# Altium footprint library Connector_PinSocket_1.27mm.PcbLib: 246 footprints (part 15 of 16)
Each footprint in its own frame and in the unit in brackets; x right, y up, seen from the top. Pads: shape width x height; smd on the part's side, far side on the other; paste and mask are expansions set on the pad; w line width, h text height; cw(c..) or ccw(c..) is an arc to the next point about the centre after c.
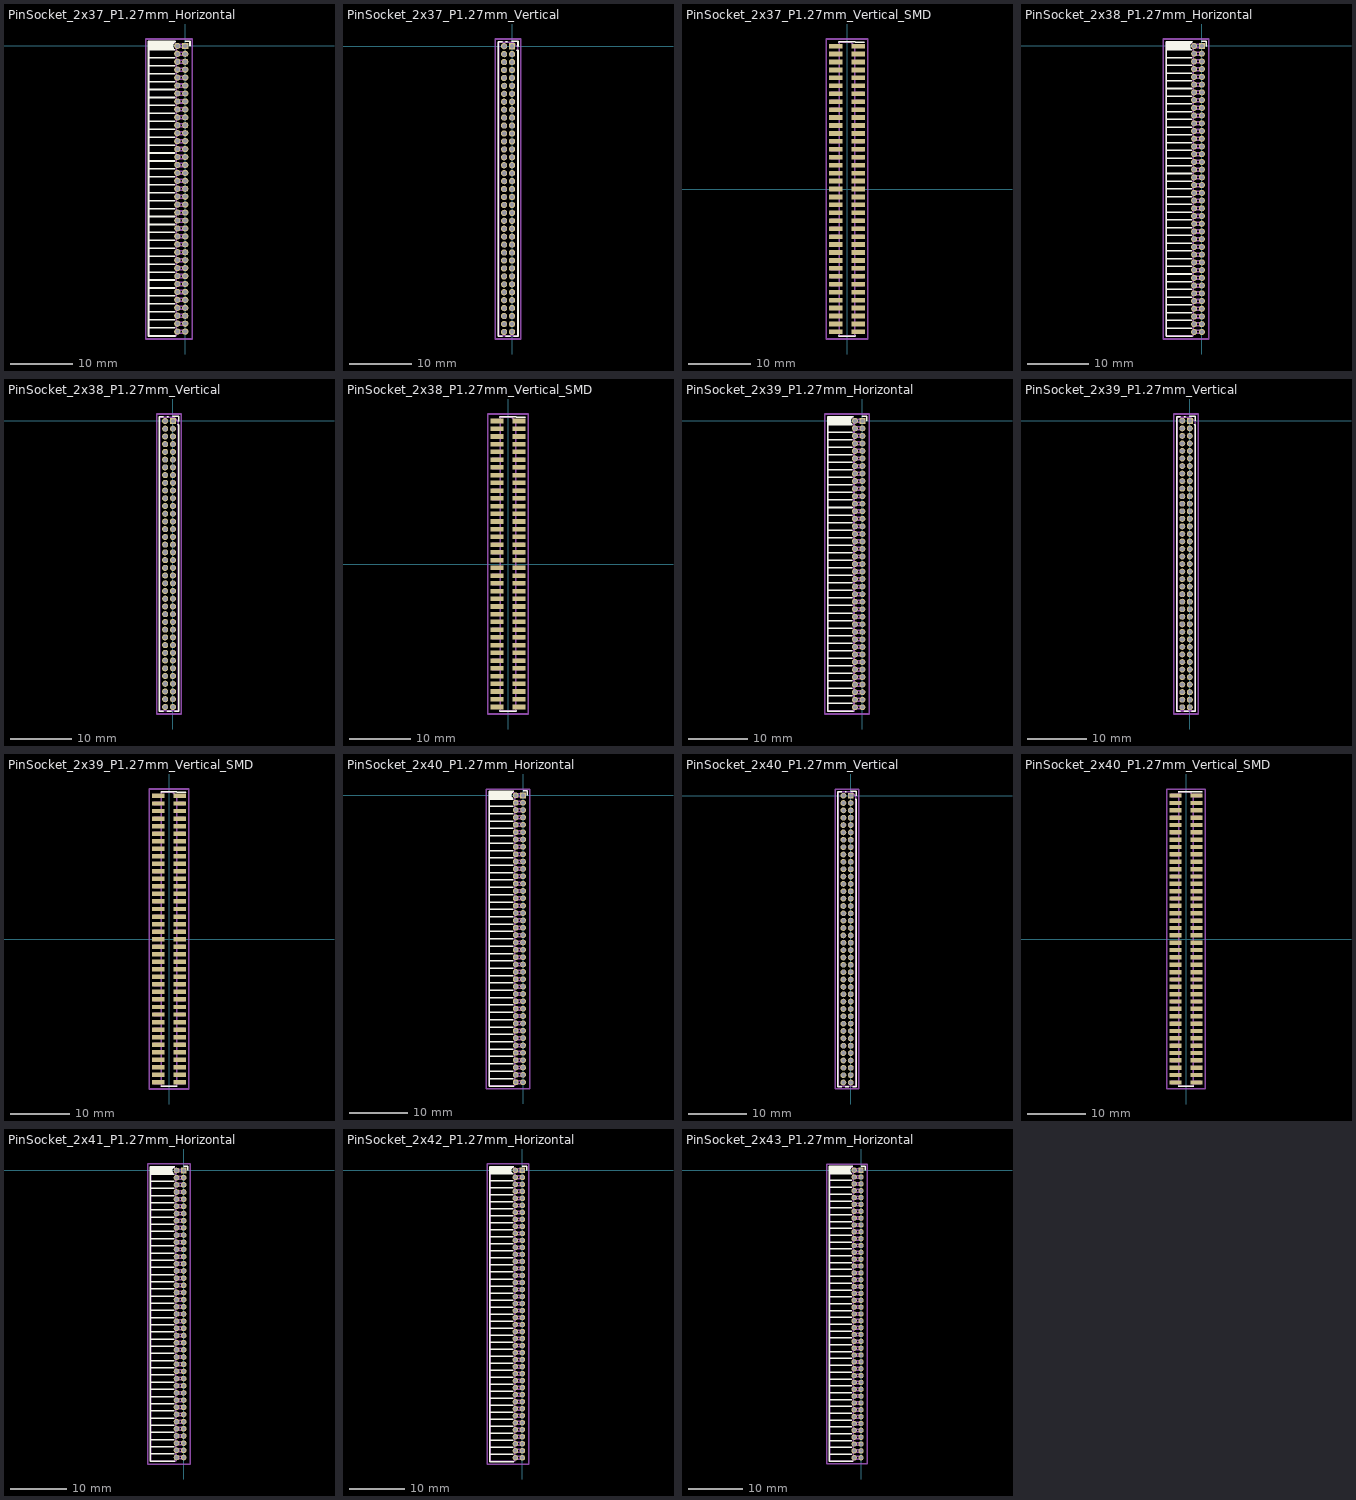
[diagram p14: the footprints below, top view; thin cyan lines are the x and y axes]

## PinSocket_2x37_P1.27mm_Horizontal [mm]
pads (74):
  rect 1x1 hole 0.65: 1(0,0)
  round 1 hole 0.65: 2(-1.27,0) 3(0,-1.27) 4(-1.27,-1.27) 5(0,-2.54) 6(-1.27,-2.54) 7(0,-3.81) 8(-1.27,-3.81) 9(0,-5.08) 10(-1.27,-5.08) 11(0,-6.35) 12(-1.27,-6.35) 13(0,-7.62) 14(-1.27,-7.62) 15(0,-8.89) 16(-1.27,-8.89) 17(0,-10.16) 18(-1.27,-10.16) 19(0,-11.43) 20(-1.27,-11.43) 21(0,-12.7) 22(-1.27,-12.7) 23(0,-13.97) 24(-1.27,-13.97) 25(0,-15.24) 26(-1.27,-15.24) 27(0,-16.51) 28(-1.27,-16.51) 29(0,-17.78) 30(-1.27,-17.78) 31(0,-19.05) 32(-1.27,-19.05) 33(0,-20.32) 34(-1.27,-20.32) 35(0,-21.59) 36(-1.27,-21.59) 37(0,-22.86) 38(-1.27,-22.86) 39(0,-24.13) 40(-1.27,-24.13) 41(0,-25.4) 42(-1.27,-25.4) 43(0,-26.67) 44(-1.27,-26.67) 45(0,-27.94) 46(-1.27,-27.94) 47(0,-29.21) 48(-1.27,-29.21) 49(0,-30.48) 50(-1.27,-30.48) 51(0,-31.75) 52(-1.27,-31.75) 53(0,-33.02) 54(-1.27,-33.02) 55(0,-34.29) 56(-1.27,-34.29) 57(0,-35.56) 58(-1.27,-35.56) 59(0,-36.83) 60(-1.27,-36.83) 61(0,-38.1) 62(-1.27,-38.1) 63(0,-39.37) 64(-1.27,-39.37) 65(0,-40.64) 66(-1.27,-40.64) 67(0,-41.91) 68(-1.27,-41.91) 69(0,-43.18) 70(-1.27,-43.18) 71(0,-44.45) 72(-1.27,-44.45) 73(0,-45.72) 74(-1.27,-45.72)
F.SilkS:
  lines w0.254: -5.88,-45.085 -1.688,-45.085 ; -5.88,-43.815 -1.688,-43.815 ; -5.88,-42.545 -1.688,-42.545 ; -5.88,-41.275 -1.688,-41.275 ; -5.88,-40.005 -1.688,-40.005 ; -5.88,-38.735 -1.688,-38.735 ; -5.88,-37.465 -1.688,-37.465 ; -5.88,-36.195 -1.688,-36.195 ; -5.88,-34.925 -1.688,-34.925 ; -5.88,-33.655 -1.688,-33.655 ; -5.88,-32.385 -1.688,-32.385 ; -5.88,-31.115 -1.688,-31.115 ; -5.88,-29.845 -1.688,-29.845 ; -5.88,-28.575 -1.688,-28.575 ; -5.88,-27.305 -1.688,-27.305 ; -5.88,-26.035 -1.688,-26.035 ; -5.88,-24.765 -1.688,-24.765 ; -5.88,-23.495 -1.688,-23.495 ; -5.88,-22.225 -1.688,-22.225 ; -5.88,-20.955 -1.688,-20.955 ; -5.88,-19.685 -1.688,-19.685 ; -5.88,-18.415 -1.688,-18.415 ; -5.88,-17.145 -1.688,-17.145 ; -5.88,-15.875 -1.688,-15.875 ; -5.88,-14.605 -1.688,-14.605 ; -5.88,-13.335 -1.688,-13.335 ; -5.88,-12.065 -1.688,-12.065 ; -5.88,-10.795 -1.688,-10.795 ; -5.88,-9.525 -1.688,-9.525 ; -5.88,-8.255 -1.688,-8.255 ; -5.88,-6.985 -1.688,-6.985 ; -5.88,-5.715 -1.688,-5.715 ; -5.88,-4.445 -1.688,-4.445 ; -5.88,-3.175 -1.688,-3.175 ; -5.88,-1.905 -1.688,-1.905 ; -5.88,-0.635 -1.688,-0.635 ; -5.88,-0.525 -1.82,-0.525 ; -5.88,-0.415 -1.907,-0.415 ; -5.88,-0.305 -1.966,-0.305 ; -5.88,-0.195 -2.005,-0.195 ; -5.88,-0.085 -2.025,-0.085 ; -5.88,0.025 -2.03,0.025 ; -5.88,0.135 -2.018,0.135 ; -5.88,0.245 -1.989,0.245 ; -5.88,0.355 -1.942,0.355 ; -5.88,0.465 -1.871,0.465 ; -5.88,0.575 -1.767,0.575 ; -1.578,-46.415 -5.88,-46.415 -5.88,0.695 -1.578,0.695 ; 0,0.76 0.76,0.76 0.76,0
Top Assembly:
  lines w0.254: -1.42,-45.97 0,-45.97 0,-45.47 -1.42,-45.47 ; -1.42,-44.7 0,-44.7 0,-44.2 -1.42,-44.2 ; -1.42,-43.43 0,-43.43 0,-42.93 -1.42,-42.93 ; -1.42,-42.16 0,-42.16 0,-41.66 -1.42,-41.66 ; -1.42,-40.89 0,-40.89 0,-40.39 -1.42,-40.39 ; -1.42,-39.62 0,-39.62 0,-39.12 -1.42,-39.12 ; -1.42,-38.35 0,-38.35 0,-37.85 -1.42,-37.85 ; -1.42,-37.08 0,-37.08 0,-36.58 -1.42,-36.58 ; -1.42,-35.81 0,-35.81 0,-35.31 -1.42,-35.31 ; -1.42,-34.54 0,-34.54 0,-34.04 -1.42,-34.04 ; -1.42,-33.27 0,-33.27 0,-32.77 -1.42,-32.77 ; -1.42,-32 0,-32 0,-31.5 -1.42,-31.5 ; -1.42,-30.73 0,-30.73 0,-30.23 -1.42,-30.23 ; -1.42,-29.46 0,-29.46 0,-28.96 -1.42,-28.96 ; -1.42,-28.19 0,-28.19 0,-27.69 -1.42,-27.69 ; -1.42,-26.92 0,-26.92 0,-26.42 -1.42,-26.42 ; -1.42,-25.65 0,-25.65 0,-25.15 -1.42,-25.15 ; -1.42,-24.38 0,-24.38 0,-23.88 -1.42,-23.88 ; -1.42,-23.11 0,-23.11 0,-22.61 -1.42,-22.61 ; -1.42,-21.84 0,-21.84 0,-21.34 -1.42,-21.34 ; -1.42,-20.57 0,-20.57 0,-20.07 -1.42,-20.07 ; -1.42,-19.3 0,-19.3 0,-18.8 -1.42,-18.8 ; -1.42,-18.03 0,-18.03 0,-17.53 -1.42,-17.53 ; -1.42,-16.76 0,-16.76 0,-16.26 -1.42,-16.26 ; -1.42,-15.49 0,-15.49 0,-14.99 -1.42,-14.99 ; -1.42,-14.22 0,-14.22 0,-13.72 -1.42,-13.72 ; -1.42,-12.95 0,-12.95 0,-12.45 -1.42,-12.45 ; -1.42,-11.68 0,-11.68 0,-11.18 -1.42,-11.18 ; -1.42,-10.41 0,-10.41 0,-9.91 -1.42,-9.91 ; -1.42,-9.14 0,-9.14 0,-8.64 -1.42,-8.64 ; -1.42,-7.87 0,-7.87 0,-7.37 -1.42,-7.37 ; -1.42,-6.6 0,-6.6 0,-6.1 -1.42,-6.1 ; -1.42,-5.33 0,-5.33 0,-4.83 -1.42,-4.83 ; -1.42,-4.06 0,-4.06 0,-3.56 -1.42,-3.56 ; -1.42,-2.79 0,-2.79 0,-2.29 -1.42,-2.29 ; -1.42,-1.52 0,-1.52 0,-1.02 -1.42,-1.02 ; -1.42,-0.25 0,-0.25 0,0.25 -1.42,0.25 ; -1.42,0.25 -1.42,-46.355 -5.82,-46.355 -5.82,0.635 -1.805,0.635 -1.42,0.25
  text "'.Designator'" at -2.78,-26.907 h1
Top Courtyard:
  lines w0.254: -6.35,-46.9 1.15,-46.9 1.15,1.1 -6.35,1.1 -6.35,-46.9
Top Designator:
  text ".Designator" at -10.218,-23.408 h1.52

## PinSocket_2x37_P1.27mm_Vertical [mm]
pads (74):
  rect 1x1 hole 0.7: 1(0,0)
  round 1 hole 0.7: 2(-1.27,0) 3(0,-1.27) 4(-1.27,-1.27) 5(0,-2.54) 6(-1.27,-2.54) 7(0,-3.81) 8(-1.27,-3.81) 9(0,-5.08) 10(-1.27,-5.08) 11(0,-6.35) 12(-1.27,-6.35) 13(0,-7.62) 14(-1.27,-7.62) 15(0,-8.89) 16(-1.27,-8.89) 17(0,-10.16) 18(-1.27,-10.16) 19(0,-11.43) 20(-1.27,-11.43) 21(0,-12.7) 22(-1.27,-12.7) 23(0,-13.97) 24(-1.27,-13.97) 25(0,-15.24) 26(-1.27,-15.24) 27(0,-16.51) 28(-1.27,-16.51) 29(0,-17.78) 30(-1.27,-17.78) 31(0,-19.05) 32(-1.27,-19.05) 33(0,-20.32) 34(-1.27,-20.32) 35(0,-21.59) 36(-1.27,-21.59) 37(0,-22.86) 38(-1.27,-22.86) 39(0,-24.13) 40(-1.27,-24.13) 41(0,-25.4) 42(-1.27,-25.4) 43(0,-26.67) 44(-1.27,-26.67) 45(0,-27.94) 46(-1.27,-27.94) 47(0,-29.21) 48(-1.27,-29.21) 49(0,-30.48) 50(-1.27,-30.48) 51(0,-31.75) 52(-1.27,-31.75) 53(0,-33.02) 54(-1.27,-33.02) 55(0,-34.29) 56(-1.27,-34.29) 57(0,-35.56) 58(-1.27,-35.56) 59(0,-36.83) 60(-1.27,-36.83) 61(0,-38.1) 62(-1.27,-38.1) 63(0,-39.37) 64(-1.27,-39.37) 65(0,-40.64) 66(-1.27,-40.64) 67(0,-41.91) 68(-1.27,-41.91) 69(0,-43.18) 70(-1.27,-43.18) 71(0,-44.45) 72(-1.27,-44.45) 73(0,-45.72) 74(-1.27,-45.72)
F.SilkS:
  lines w0.254: -1.578,-46.415 -2.22,-46.415 -2.22,0.695 -1.578,0.695 ; -0.962,-46.415 -0.308,-46.415 ; -0.962,0.695 -0.76,0.695 ; 0,0.76 0.95,0.76 0.95,0 ; 0.308,-46.415 0.95,-46.415 0.95,-0.635 0.76,-0.635
Top Assembly:
  lines w0.254: -2.16,-46.355 0.89,-46.355 0.89,-0.128 0.128,0.635 -2.16,0.635 -2.16,-46.355
  text "'.Designator'" at 0.205,-26.907 h1
Top Courtyard:
  lines w0.254: -2.67,-46.85 1.38,-46.85 1.38,1.15 -2.67,1.15 -2.67,-46.85
Top Designator:
  text ".Designator" at -8.263,-23.358 h1.52

## PinSocket_2x37_P1.27mm_Vertical_SMD [mm]
pads (74):
  rect 2.1x0.75 smd: 1(1.8,22.86) 2(-1.8,22.86) 3(1.8,21.59) 4(-1.8,21.59) 5(1.8,20.32) 6(-1.8,20.32) 7(1.8,19.05) 8(-1.8,19.05) 9(1.8,17.78) 10(-1.8,17.78) 11(1.8,16.51) 12(-1.8,16.51) 13(1.8,15.24) 14(-1.8,15.24) 15(1.8,13.97) 16(-1.8,13.97) 17(1.8,12.7) 18(-1.8,12.7) 19(1.8,11.43) 20(-1.8,11.43) 21(1.8,10.16) 22(-1.8,10.16) 23(1.8,8.89) 24(-1.8,8.89) 25(1.8,7.62) 26(-1.8,7.62) 27(1.8,6.35) 28(-1.8,6.35) 29(1.8,5.08) 30(-1.8,5.08) 31(1.8,3.81) 32(-1.8,3.81) 33(1.8,2.54) 34(-1.8,2.54) 35(1.8,1.27) 36(-1.8,1.27) 37(1.8,0) 38(-1.8,0) 39(1.8,-1.27) 40(-1.8,-1.27) 41(1.8,-2.54) 42(-1.8,-2.54) 43(1.8,-3.81) 44(-1.8,-3.81) 45(1.8,-5.08) 46(-1.8,-5.08) 47(1.8,-6.35) 48(-1.8,-6.35) 49(1.8,-7.62) 50(-1.8,-7.62) 51(1.8,-8.89) 52(-1.8,-8.89) 53(1.8,-10.16) 54(-1.8,-10.16) 55(1.8,-11.43) 56(-1.8,-11.43) 57(1.8,-12.7) 58(-1.8,-12.7) 59(1.8,-13.97) 60(-1.8,-13.97) 61(1.8,-15.24) 62(-1.8,-15.24) 63(1.8,-16.51) 64(-1.8,-16.51) 65(1.8,-17.78) 66(-1.8,-17.78) 67(1.8,-19.05) 68(-1.8,-19.05) 69(1.8,-20.32) 70(-1.8,-20.32) 71(1.8,-21.59) 72(-1.8,-21.59) 73(1.8,-22.86) 74(-1.8,-22.86)
F.SilkS:
  lines w0.254: -1.33,-23.495 -1.33,-23.555 1.33,-23.555 1.33,-23.495 ; -1.33,23.495 -1.33,23.555 1.33,23.555 1.33,23.495 2.79,23.495
Top Assembly:
  drawing of 227 lines, arcs and shapes, not listed
  text "'.Designator'" at 0.84,-4.047 h1
Top Courtyard:
  lines w0.254: -3.35,-24 3.35,-24 3.35,24 -3.35,24 -3.35,-24
Top Designator:
  text ".Designator" at -7.618,-0.508 h1.52

## PinSocket_2x38_P1.27mm_Horizontal [mm]
pads (76):
  rect 1x1 hole 0.65: 1(0,0)
  round 1 hole 0.65: 2(-1.27,0) 3(0,-1.27) 4(-1.27,-1.27) 5(0,-2.54) 6(-1.27,-2.54) 7(0,-3.81) 8(-1.27,-3.81) 9(0,-5.08) 10(-1.27,-5.08) 11(0,-6.35) 12(-1.27,-6.35) 13(0,-7.62) 14(-1.27,-7.62) 15(0,-8.89) 16(-1.27,-8.89) 17(0,-10.16) 18(-1.27,-10.16) 19(0,-11.43) 20(-1.27,-11.43) 21(0,-12.7) 22(-1.27,-12.7) 23(0,-13.97) 24(-1.27,-13.97) 25(0,-15.24) 26(-1.27,-15.24) 27(0,-16.51) 28(-1.27,-16.51) 29(0,-17.78) 30(-1.27,-17.78) 31(0,-19.05) 32(-1.27,-19.05) 33(0,-20.32) 34(-1.27,-20.32) 35(0,-21.59) 36(-1.27,-21.59) 37(0,-22.86) 38(-1.27,-22.86) 39(0,-24.13) 40(-1.27,-24.13) 41(0,-25.4) 42(-1.27,-25.4) 43(0,-26.67) 44(-1.27,-26.67) 45(0,-27.94) 46(-1.27,-27.94) 47(0,-29.21) 48(-1.27,-29.21) 49(0,-30.48) 50(-1.27,-30.48) 51(0,-31.75) 52(-1.27,-31.75) 53(0,-33.02) 54(-1.27,-33.02) 55(0,-34.29) 56(-1.27,-34.29) 57(0,-35.56) 58(-1.27,-35.56) 59(0,-36.83) 60(-1.27,-36.83) 61(0,-38.1) 62(-1.27,-38.1) 63(0,-39.37) 64(-1.27,-39.37) 65(0,-40.64) 66(-1.27,-40.64) 67(0,-41.91) 68(-1.27,-41.91) 69(0,-43.18) 70(-1.27,-43.18) 71(0,-44.45) 72(-1.27,-44.45) 73(0,-45.72) 74(-1.27,-45.72) 75(0,-46.99) 76(-1.27,-46.99)
F.SilkS:
  lines w0.254: -5.88,-46.355 -1.688,-46.355 ; -5.88,-45.085 -1.688,-45.085 ; -5.88,-43.815 -1.688,-43.815 ; -5.88,-42.545 -1.688,-42.545 ; -5.88,-41.275 -1.688,-41.275 ; -5.88,-40.005 -1.688,-40.005 ; -5.88,-38.735 -1.688,-38.735 ; -5.88,-37.465 -1.688,-37.465 ; -5.88,-36.195 -1.688,-36.195 ; -5.88,-34.925 -1.688,-34.925 ; -5.88,-33.655 -1.688,-33.655 ; -5.88,-32.385 -1.688,-32.385 ; -5.88,-31.115 -1.688,-31.115 ; -5.88,-29.845 -1.688,-29.845 ; -5.88,-28.575 -1.688,-28.575 ; -5.88,-27.305 -1.688,-27.305 ; -5.88,-26.035 -1.688,-26.035 ; -5.88,-24.765 -1.688,-24.765 ; -5.88,-23.495 -1.688,-23.495 ; -5.88,-22.225 -1.688,-22.225 ; -5.88,-20.955 -1.688,-20.955 ; -5.88,-19.685 -1.688,-19.685 ; -5.88,-18.415 -1.688,-18.415 ; -5.88,-17.145 -1.688,-17.145 ; -5.88,-15.875 -1.688,-15.875 ; -5.88,-14.605 -1.688,-14.605 ; -5.88,-13.335 -1.688,-13.335 ; -5.88,-12.065 -1.688,-12.065 ; -5.88,-10.795 -1.688,-10.795 ; -5.88,-9.525 -1.688,-9.525 ; -5.88,-8.255 -1.688,-8.255 ; -5.88,-6.985 -1.688,-6.985 ; -5.88,-5.715 -1.688,-5.715 ; -5.88,-4.445 -1.688,-4.445 ; -5.88,-3.175 -1.688,-3.175 ; -5.88,-1.905 -1.688,-1.905 ; -5.88,-0.635 -1.688,-0.635 ; -5.88,-0.525 -1.82,-0.525 ; -5.88,-0.415 -1.907,-0.415 ; -5.88,-0.305 -1.966,-0.305 ; -5.88,-0.195 -2.005,-0.195 ; -5.88,-0.085 -2.025,-0.085 ; -5.88,0.025 -2.03,0.025 ; -5.88,0.135 -2.018,0.135 ; -5.88,0.245 -1.989,0.245 ; -5.88,0.355 -1.942,0.355 ; -5.88,0.465 -1.871,0.465 ; -5.88,0.575 -1.767,0.575 ; -1.578,-47.685 -5.88,-47.685 -5.88,0.695 -1.578,0.695 ; 0,0.76 0.76,0.76 0.76,0
Top Assembly:
  lines w0.254: -1.42,-47.24 0,-47.24 0,-46.74 -1.42,-46.74 ; -1.42,-45.97 0,-45.97 0,-45.47 -1.42,-45.47 ; -1.42,-44.7 0,-44.7 0,-44.2 -1.42,-44.2 ; -1.42,-43.43 0,-43.43 0,-42.93 -1.42,-42.93 ; -1.42,-42.16 0,-42.16 0,-41.66 -1.42,-41.66 ; -1.42,-40.89 0,-40.89 0,-40.39 -1.42,-40.39 ; -1.42,-39.62 0,-39.62 0,-39.12 -1.42,-39.12 ; -1.42,-38.35 0,-38.35 0,-37.85 -1.42,-37.85 ; -1.42,-37.08 0,-37.08 0,-36.58 -1.42,-36.58 ; -1.42,-35.81 0,-35.81 0,-35.31 -1.42,-35.31 ; -1.42,-34.54 0,-34.54 0,-34.04 -1.42,-34.04 ; -1.42,-33.27 0,-33.27 0,-32.77 -1.42,-32.77 ; -1.42,-32 0,-32 0,-31.5 -1.42,-31.5 ; -1.42,-30.73 0,-30.73 0,-30.23 -1.42,-30.23 ; -1.42,-29.46 0,-29.46 0,-28.96 -1.42,-28.96 ; -1.42,-28.19 0,-28.19 0,-27.69 -1.42,-27.69 ; -1.42,-26.92 0,-26.92 0,-26.42 -1.42,-26.42 ; -1.42,-25.65 0,-25.65 0,-25.15 -1.42,-25.15 ; -1.42,-24.38 0,-24.38 0,-23.88 -1.42,-23.88 ; -1.42,-23.11 0,-23.11 0,-22.61 -1.42,-22.61 ; -1.42,-21.84 0,-21.84 0,-21.34 -1.42,-21.34 ; -1.42,-20.57 0,-20.57 0,-20.07 -1.42,-20.07 ; -1.42,-19.3 0,-19.3 0,-18.8 -1.42,-18.8 ; -1.42,-18.03 0,-18.03 0,-17.53 -1.42,-17.53 ; -1.42,-16.76 0,-16.76 0,-16.26 -1.42,-16.26 ; -1.42,-15.49 0,-15.49 0,-14.99 -1.42,-14.99 ; -1.42,-14.22 0,-14.22 0,-13.72 -1.42,-13.72 ; -1.42,-12.95 0,-12.95 0,-12.45 -1.42,-12.45 ; -1.42,-11.68 0,-11.68 0,-11.18 -1.42,-11.18 ; -1.42,-10.41 0,-10.41 0,-9.91 -1.42,-9.91 ; -1.42,-9.14 0,-9.14 0,-8.64 -1.42,-8.64 ; -1.42,-7.87 0,-7.87 0,-7.37 -1.42,-7.37 ; -1.42,-6.6 0,-6.6 0,-6.1 -1.42,-6.1 ; -1.42,-5.33 0,-5.33 0,-4.83 -1.42,-4.83 ; -1.42,-4.06 0,-4.06 0,-3.56 -1.42,-3.56 ; -1.42,-2.79 0,-2.79 0,-2.29 -1.42,-2.29 ; -1.42,-1.52 0,-1.52 0,-1.02 -1.42,-1.02 ; -1.42,-0.25 0,-0.25 0,0.25 -1.42,0.25 ; -1.42,0.25 -1.42,-47.625 -5.82,-47.625 -5.82,0.635 -1.805,0.635 -1.42,0.25
  text "'.Designator'" at -2.78,-27.542 h1
Top Courtyard:
  lines w0.254: -6.35,-48.15 1.15,-48.15 1.15,1.15 -6.35,1.15 -6.35,-48.15
Top Designator:
  text ".Designator" at -10.218,-24.008 h1.52

## PinSocket_2x38_P1.27mm_Vertical [mm]
pads (76):
  rect 1x1 hole 0.7: 1(0,0)
  round 1 hole 0.7: 2(-1.27,0) 3(0,-1.27) 4(-1.27,-1.27) 5(0,-2.54) 6(-1.27,-2.54) 7(0,-3.81) 8(-1.27,-3.81) 9(0,-5.08) 10(-1.27,-5.08) 11(0,-6.35) 12(-1.27,-6.35) 13(0,-7.62) 14(-1.27,-7.62) 15(0,-8.89) 16(-1.27,-8.89) 17(0,-10.16) 18(-1.27,-10.16) 19(0,-11.43) 20(-1.27,-11.43) 21(0,-12.7) 22(-1.27,-12.7) 23(0,-13.97) 24(-1.27,-13.97) 25(0,-15.24) 26(-1.27,-15.24) 27(0,-16.51) 28(-1.27,-16.51) 29(0,-17.78) 30(-1.27,-17.78) 31(0,-19.05) 32(-1.27,-19.05) 33(0,-20.32) 34(-1.27,-20.32) 35(0,-21.59) 36(-1.27,-21.59) 37(0,-22.86) 38(-1.27,-22.86) 39(0,-24.13) 40(-1.27,-24.13) 41(0,-25.4) 42(-1.27,-25.4) 43(0,-26.67) 44(-1.27,-26.67) 45(0,-27.94) 46(-1.27,-27.94) 47(0,-29.21) 48(-1.27,-29.21) 49(0,-30.48) 50(-1.27,-30.48) 51(0,-31.75) 52(-1.27,-31.75) 53(0,-33.02) 54(-1.27,-33.02) 55(0,-34.29) 56(-1.27,-34.29) 57(0,-35.56) 58(-1.27,-35.56) 59(0,-36.83) 60(-1.27,-36.83) 61(0,-38.1) 62(-1.27,-38.1) 63(0,-39.37) 64(-1.27,-39.37) 65(0,-40.64) 66(-1.27,-40.64) 67(0,-41.91) 68(-1.27,-41.91) 69(0,-43.18) 70(-1.27,-43.18) 71(0,-44.45) 72(-1.27,-44.45) 73(0,-45.72) 74(-1.27,-45.72) 75(0,-46.99) 76(-1.27,-46.99)
F.SilkS:
  lines w0.254: -1.578,-47.685 -2.22,-47.685 -2.22,0.695 -1.578,0.695 ; -0.962,-47.685 -0.308,-47.685 ; -0.962,0.695 -0.76,0.695 ; 0,0.76 0.95,0.76 0.95,0 ; 0.308,-47.685 0.95,-47.685 0.95,-0.635 0.76,-0.635
Top Assembly:
  lines w0.254: -2.16,-47.625 0.89,-47.625 0.89,-0.128 0.128,0.635 -2.16,0.635 -2.16,-47.625
  text "'.Designator'" at 0.205,-27.542 h1
Top Courtyard:
  lines w0.254: -2.67,-48.15 1.38,-48.15 1.38,1.15 -2.67,1.15 -2.67,-48.15
Top Designator:
  text ".Designator" at -8.263,-24.008 h1.52

## PinSocket_2x38_P1.27mm_Vertical_SMD [mm]
pads (76):
  rect 2.1x0.75 smd: 1(1.8,23.495) 2(-1.8,23.495) 3(1.8,22.225) 4(-1.8,22.225) 5(1.8,20.955) 6(-1.8,20.955) 7(1.8,19.685) 8(-1.8,19.685) 9(1.8,18.415) 10(-1.8,18.415) 11(1.8,17.145) 12(-1.8,17.145) 13(1.8,15.875) 14(-1.8,15.875) 15(1.8,14.605) 16(-1.8,14.605) 17(1.8,13.335) 18(-1.8,13.335) 19(1.8,12.065) 20(-1.8,12.065) 21(1.8,10.795) 22(-1.8,10.795) 23(1.8,9.525) 24(-1.8,9.525) 25(1.8,8.255) 26(-1.8,8.255) 27(1.8,6.985) 28(-1.8,6.985) 29(1.8,5.715) 30(-1.8,5.715) 31(1.8,4.445) 32(-1.8,4.445) 33(1.8,3.175) 34(-1.8,3.175) 35(1.8,1.905) 36(-1.8,1.905) 37(1.8,0.635) 38(-1.8,0.635) 39(1.8,-0.635) 40(-1.8,-0.635) 41(1.8,-1.905) 42(-1.8,-1.905) 43(1.8,-3.175) 44(-1.8,-3.175) 45(1.8,-4.445) 46(-1.8,-4.445) 47(1.8,-5.715) 48(-1.8,-5.715) 49(1.8,-6.985) 50(-1.8,-6.985) 51(1.8,-8.255) 52(-1.8,-8.255) 53(1.8,-9.525) 54(-1.8,-9.525) 55(1.8,-10.795) 56(-1.8,-10.795) 57(1.8,-12.065) 58(-1.8,-12.065) 59(1.8,-13.335) 60(-1.8,-13.335) 61(1.8,-14.605) 62(-1.8,-14.605) 63(1.8,-15.875) 64(-1.8,-15.875) 65(1.8,-17.145) 66(-1.8,-17.145) 67(1.8,-18.415) 68(-1.8,-18.415) 69(1.8,-19.685) 70(-1.8,-19.685) 71(1.8,-20.955) 72(-1.8,-20.955) 73(1.8,-22.225) 74(-1.8,-22.225) 75(1.8,-23.495) 76(-1.8,-23.495)
F.SilkS:
  lines w0.254: -1.33,-24.13 -1.33,-24.19 1.33,-24.19 1.33,-24.13 ; -1.33,24.13 -1.33,24.19 1.33,24.19 1.33,24.13 2.79,24.13
Top Assembly:
  drawing of 233 lines, arcs and shapes, not listed
  text "'.Designator'" at 0.84,-4.047 h1
Top Courtyard:
  lines w0.254: -3.35,-24.65 3.35,-24.65 3.35,24.65 -3.35,24.65 -3.35,-24.65
Top Designator:
  text ".Designator" at -7.618,-0.508 h1.52

## PinSocket_2x39_P1.27mm_Horizontal [mm]
pads (78):
  rect 1x1 hole 0.65: 1(0,0)
  round 1 hole 0.65: 2(-1.27,0) 3(0,-1.27) 4(-1.27,-1.27) 5(0,-2.54) 6(-1.27,-2.54) 7(0,-3.81) 8(-1.27,-3.81) 9(0,-5.08) 10(-1.27,-5.08) 11(0,-6.35) 12(-1.27,-6.35) 13(0,-7.62) 14(-1.27,-7.62) 15(0,-8.89) 16(-1.27,-8.89) 17(0,-10.16) 18(-1.27,-10.16) 19(0,-11.43) 20(-1.27,-11.43) 21(0,-12.7) 22(-1.27,-12.7) 23(0,-13.97) 24(-1.27,-13.97) 25(0,-15.24) 26(-1.27,-15.24) 27(0,-16.51) 28(-1.27,-16.51) 29(0,-17.78) 30(-1.27,-17.78) 31(0,-19.05) 32(-1.27,-19.05) 33(0,-20.32) 34(-1.27,-20.32) 35(0,-21.59) 36(-1.27,-21.59) 37(0,-22.86) 38(-1.27,-22.86) 39(0,-24.13) 40(-1.27,-24.13) 41(0,-25.4) 42(-1.27,-25.4) 43(0,-26.67) 44(-1.27,-26.67) 45(0,-27.94) 46(-1.27,-27.94) 47(0,-29.21) 48(-1.27,-29.21) 49(0,-30.48) 50(-1.27,-30.48) 51(0,-31.75) 52(-1.27,-31.75) 53(0,-33.02) 54(-1.27,-33.02) 55(0,-34.29) 56(-1.27,-34.29) 57(0,-35.56) 58(-1.27,-35.56) 59(0,-36.83) 60(-1.27,-36.83) 61(0,-38.1) 62(-1.27,-38.1) 63(0,-39.37) 64(-1.27,-39.37) 65(0,-40.64) 66(-1.27,-40.64) 67(0,-41.91) 68(-1.27,-41.91) 69(0,-43.18) 70(-1.27,-43.18) 71(0,-44.45) 72(-1.27,-44.45) 73(0,-45.72) 74(-1.27,-45.72) 75(0,-46.99) 76(-1.27,-46.99) 77(0,-48.26) 78(-1.27,-48.26)
F.SilkS:
  lines w0.254: -5.88,-47.625 -1.688,-47.625 ; -5.88,-46.355 -1.688,-46.355 ; -5.88,-45.085 -1.688,-45.085 ; -5.88,-43.815 -1.688,-43.815 ; -5.88,-42.545 -1.688,-42.545 ; -5.88,-41.275 -1.688,-41.275 ; -5.88,-40.005 -1.688,-40.005 ; -5.88,-38.735 -1.688,-38.735 ; -5.88,-37.465 -1.688,-37.465 ; -5.88,-36.195 -1.688,-36.195 ; -5.88,-34.925 -1.688,-34.925 ; -5.88,-33.655 -1.688,-33.655 ; -5.88,-32.385 -1.688,-32.385 ; -5.88,-31.115 -1.688,-31.115 ; -5.88,-29.845 -1.688,-29.845 ; -5.88,-28.575 -1.688,-28.575 ; -5.88,-27.305 -1.688,-27.305 ; -5.88,-26.035 -1.688,-26.035 ; -5.88,-24.765 -1.688,-24.765 ; -5.88,-23.495 -1.688,-23.495 ; -5.88,-22.225 -1.688,-22.225 ; -5.88,-20.955 -1.688,-20.955 ; -5.88,-19.685 -1.688,-19.685 ; -5.88,-18.415 -1.688,-18.415 ; -5.88,-17.145 -1.688,-17.145 ; -5.88,-15.875 -1.688,-15.875 ; -5.88,-14.605 -1.688,-14.605 ; -5.88,-13.335 -1.688,-13.335 ; -5.88,-12.065 -1.688,-12.065 ; -5.88,-10.795 -1.688,-10.795 ; -5.88,-9.525 -1.688,-9.525 ; -5.88,-8.255 -1.688,-8.255 ; -5.88,-6.985 -1.688,-6.985 ; -5.88,-5.715 -1.688,-5.715 ; -5.88,-4.445 -1.688,-4.445 ; -5.88,-3.175 -1.688,-3.175 ; -5.88,-1.905 -1.688,-1.905 ; -5.88,-0.635 -1.688,-0.635 ; -5.88,-0.525 -1.82,-0.525 ; -5.88,-0.415 -1.907,-0.415 ; -5.88,-0.305 -1.966,-0.305 ; -5.88,-0.195 -2.005,-0.195 ; -5.88,-0.085 -2.025,-0.085 ; -5.88,0.025 -2.03,0.025 ; -5.88,0.135 -2.018,0.135 ; -5.88,0.245 -1.989,0.245 ; -5.88,0.355 -1.942,0.355 ; -5.88,0.465 -1.871,0.465 ; -5.88,0.575 -1.767,0.575 ; -1.578,-48.955 -5.88,-48.955 -5.88,0.695 -1.578,0.695 ; 0,0.76 0.76,0.76 0.76,0
Top Assembly:
  lines w0.254: -1.42,-48.51 0,-48.51 0,-48.01 -1.42,-48.01 ; -1.42,-47.24 0,-47.24 0,-46.74 -1.42,-46.74 ; -1.42,-45.97 0,-45.97 0,-45.47 -1.42,-45.47 ; -1.42,-44.7 0,-44.7 0,-44.2 -1.42,-44.2 ; -1.42,-43.43 0,-43.43 0,-42.93 -1.42,-42.93 ; -1.42,-42.16 0,-42.16 0,-41.66 -1.42,-41.66 ; -1.42,-40.89 0,-40.89 0,-40.39 -1.42,-40.39 ; -1.42,-39.62 0,-39.62 0,-39.12 -1.42,-39.12 ; -1.42,-38.35 0,-38.35 0,-37.85 -1.42,-37.85 ; -1.42,-37.08 0,-37.08 0,-36.58 -1.42,-36.58 ; -1.42,-35.81 0,-35.81 0,-35.31 -1.42,-35.31 ; -1.42,-34.54 0,-34.54 0,-34.04 -1.42,-34.04 ; -1.42,-33.27 0,-33.27 0,-32.77 -1.42,-32.77 ; -1.42,-32 0,-32 0,-31.5 -1.42,-31.5 ; -1.42,-30.73 0,-30.73 0,-30.23 -1.42,-30.23 ; -1.42,-29.46 0,-29.46 0,-28.96 -1.42,-28.96 ; -1.42,-28.19 0,-28.19 0,-27.69 -1.42,-27.69 ; -1.42,-26.92 0,-26.92 0,-26.42 -1.42,-26.42 ; -1.42,-25.65 0,-25.65 0,-25.15 -1.42,-25.15 ; -1.42,-24.38 0,-24.38 0,-23.88 -1.42,-23.88 ; -1.42,-23.11 0,-23.11 0,-22.61 -1.42,-22.61 ; -1.42,-21.84 0,-21.84 0,-21.34 -1.42,-21.34 ; -1.42,-20.57 0,-20.57 0,-20.07 -1.42,-20.07 ; -1.42,-19.3 0,-19.3 0,-18.8 -1.42,-18.8 ; -1.42,-18.03 0,-18.03 0,-17.53 -1.42,-17.53 ; -1.42,-16.76 0,-16.76 0,-16.26 -1.42,-16.26 ; -1.42,-15.49 0,-15.49 0,-14.99 -1.42,-14.99 ; -1.42,-14.22 0,-14.22 0,-13.72 -1.42,-13.72 ; -1.42,-12.95 0,-12.95 0,-12.45 -1.42,-12.45 ; -1.42,-11.68 0,-11.68 0,-11.18 -1.42,-11.18 ; -1.42,-10.41 0,-10.41 0,-9.91 -1.42,-9.91 ; -1.42,-9.14 0,-9.14 0,-8.64 -1.42,-8.64 ; -1.42,-7.87 0,-7.87 0,-7.37 -1.42,-7.37 ; -1.42,-6.6 0,-6.6 0,-6.1 -1.42,-6.1 ; -1.42,-5.33 0,-5.33 0,-4.83 -1.42,-4.83 ; -1.42,-4.06 0,-4.06 0,-3.56 -1.42,-3.56 ; -1.42,-2.79 0,-2.79 0,-2.29 -1.42,-2.29 ; -1.42,-1.52 0,-1.52 0,-1.02 -1.42,-1.02 ; -1.42,-0.25 0,-0.25 0,0.25 -1.42,0.25 ; -1.42,0.25 -1.42,-48.895 -5.82,-48.895 -5.82,0.635 -1.805,0.635 -1.42,0.25
  text "'.Designator'" at -2.78,-28.177 h1
Top Courtyard:
  lines w0.254: -6.35,-49.4 1.15,-49.4 1.15,1.15 -6.35,1.15 -6.35,-49.4
Top Designator:
  text ".Designator" at -10.218,-24.633 h1.52

## PinSocket_2x39_P1.27mm_Vertical [mm]
pads (78):
  rect 1x1 hole 0.7: 1(0,0)
  round 1 hole 0.7: 2(-1.27,0) 3(0,-1.27) 4(-1.27,-1.27) 5(0,-2.54) 6(-1.27,-2.54) 7(0,-3.81) 8(-1.27,-3.81) 9(0,-5.08) 10(-1.27,-5.08) 11(0,-6.35) 12(-1.27,-6.35) 13(0,-7.62) 14(-1.27,-7.62) 15(0,-8.89) 16(-1.27,-8.89) 17(0,-10.16) 18(-1.27,-10.16) 19(0,-11.43) 20(-1.27,-11.43) 21(0,-12.7) 22(-1.27,-12.7) 23(0,-13.97) 24(-1.27,-13.97) 25(0,-15.24) 26(-1.27,-15.24) 27(0,-16.51) 28(-1.27,-16.51) 29(0,-17.78) 30(-1.27,-17.78) 31(0,-19.05) 32(-1.27,-19.05) 33(0,-20.32) 34(-1.27,-20.32) 35(0,-21.59) 36(-1.27,-21.59) 37(0,-22.86) 38(-1.27,-22.86) 39(0,-24.13) 40(-1.27,-24.13) 41(0,-25.4) 42(-1.27,-25.4) 43(0,-26.67) 44(-1.27,-26.67) 45(0,-27.94) 46(-1.27,-27.94) 47(0,-29.21) 48(-1.27,-29.21) 49(0,-30.48) 50(-1.27,-30.48) 51(0,-31.75) 52(-1.27,-31.75) 53(0,-33.02) 54(-1.27,-33.02) 55(0,-34.29) 56(-1.27,-34.29) 57(0,-35.56) 58(-1.27,-35.56) 59(0,-36.83) 60(-1.27,-36.83) 61(0,-38.1) 62(-1.27,-38.1) 63(0,-39.37) 64(-1.27,-39.37) 65(0,-40.64) 66(-1.27,-40.64) 67(0,-41.91) 68(-1.27,-41.91) 69(0,-43.18) 70(-1.27,-43.18) 71(0,-44.45) 72(-1.27,-44.45) 73(0,-45.72) 74(-1.27,-45.72) 75(0,-46.99) 76(-1.27,-46.99) 77(0,-48.26) 78(-1.27,-48.26)
F.SilkS:
  lines w0.254: -1.578,-48.955 -2.22,-48.955 -2.22,0.695 -1.578,0.695 ; -0.962,-48.955 -0.308,-48.955 ; -0.962,0.695 -0.76,0.695 ; 0,0.76 0.95,0.76 0.95,0 ; 0.308,-48.955 0.95,-48.955 0.95,-0.635 0.76,-0.635
Top Assembly:
  lines w0.254: -2.16,-48.895 0.89,-48.895 0.89,-0.128 0.128,0.635 -2.16,0.635 -2.16,-48.895
  text "'.Designator'" at 0.205,-28.177 h1
Top Courtyard:
  lines w0.254: -2.67,-49.4 1.38,-49.4 1.38,1.15 -2.67,1.15 -2.67,-49.4
Top Designator:
  text ".Designator" at -8.263,-24.633 h1.52

## PinSocket_2x39_P1.27mm_Vertical_SMD [mm]
pads (78):
  rect 2.1x0.75 smd: 1(1.8,24.13) 2(-1.8,24.13) 3(1.8,22.86) 4(-1.8,22.86) 5(1.8,21.59) 6(-1.8,21.59) 7(1.8,20.32) 8(-1.8,20.32) 9(1.8,19.05) 10(-1.8,19.05) 11(1.8,17.78) 12(-1.8,17.78) 13(1.8,16.51) 14(-1.8,16.51) 15(1.8,15.24) 16(-1.8,15.24) 17(1.8,13.97) 18(-1.8,13.97) 19(1.8,12.7) 20(-1.8,12.7) 21(1.8,11.43) 22(-1.8,11.43) 23(1.8,10.16) 24(-1.8,10.16) 25(1.8,8.89) 26(-1.8,8.89) 27(1.8,7.62) 28(-1.8,7.62) 29(1.8,6.35) 30(-1.8,6.35) 31(1.8,5.08) 32(-1.8,5.08) 33(1.8,3.81) 34(-1.8,3.81) 35(1.8,2.54) 36(-1.8,2.54) 37(1.8,1.27) 38(-1.8,1.27) 39(1.8,0) 40(-1.8,0) 41(1.8,-1.27) 42(-1.8,-1.27) 43(1.8,-2.54) 44(-1.8,-2.54) 45(1.8,-3.81) 46(-1.8,-3.81) 47(1.8,-5.08) 48(-1.8,-5.08) 49(1.8,-6.35) 50(-1.8,-6.35) 51(1.8,-7.62) 52(-1.8,-7.62) 53(1.8,-8.89) 54(-1.8,-8.89) 55(1.8,-10.16) 56(-1.8,-10.16) 57(1.8,-11.43) 58(-1.8,-11.43) 59(1.8,-12.7) 60(-1.8,-12.7) 61(1.8,-13.97) 62(-1.8,-13.97) 63(1.8,-15.24) 64(-1.8,-15.24) 65(1.8,-16.51) 66(-1.8,-16.51) 67(1.8,-17.78) 68(-1.8,-17.78) 69(1.8,-19.05) 70(-1.8,-19.05) 71(1.8,-20.32) 72(-1.8,-20.32) 73(1.8,-21.59) 74(-1.8,-21.59) 75(1.8,-22.86) 76(-1.8,-22.86) 77(1.8,-24.13) 78(-1.8,-24.13)
F.SilkS:
  lines w0.254: -1.33,-24.765 -1.33,-24.825 1.33,-24.825 1.33,-24.765 ; -1.33,24.765 -1.33,24.825 1.33,24.825 1.33,24.765 2.79,24.765
Top Assembly:
  drawing of 239 lines, arcs and shapes, not listed
  text "'.Designator'" at 0.84,-4.047 h1
Top Courtyard:
  lines w0.254: -3.35,-25.25 3.35,-25.25 3.35,25.3 -3.35,25.3 -3.35,-25.25
Top Designator:
  text ".Designator" at -7.618,-0.483 h1.52

## PinSocket_2x40_P1.27mm_Horizontal [mm]
pads (80):
  rect 1x1 hole 0.65: 1(0,0)
  round 1 hole 0.65: 2(-1.27,0) 3(0,-1.27) 4(-1.27,-1.27) 5(0,-2.54) 6(-1.27,-2.54) 7(0,-3.81) 8(-1.27,-3.81) 9(0,-5.08) 10(-1.27,-5.08) 11(0,-6.35) 12(-1.27,-6.35) 13(0,-7.62) 14(-1.27,-7.62) 15(0,-8.89) 16(-1.27,-8.89) 17(0,-10.16) 18(-1.27,-10.16) 19(0,-11.43) 20(-1.27,-11.43) 21(0,-12.7) 22(-1.27,-12.7) 23(0,-13.97) 24(-1.27,-13.97) 25(0,-15.24) 26(-1.27,-15.24) 27(0,-16.51) 28(-1.27,-16.51) 29(0,-17.78) 30(-1.27,-17.78) 31(0,-19.05) 32(-1.27,-19.05) 33(0,-20.32) 34(-1.27,-20.32) 35(0,-21.59) 36(-1.27,-21.59) 37(0,-22.86) 38(-1.27,-22.86) 39(0,-24.13) 40(-1.27,-24.13) 41(0,-25.4) 42(-1.27,-25.4) 43(0,-26.67) 44(-1.27,-26.67) 45(0,-27.94) 46(-1.27,-27.94) 47(0,-29.21) 48(-1.27,-29.21) 49(0,-30.48) 50(-1.27,-30.48) 51(0,-31.75) 52(-1.27,-31.75) 53(0,-33.02) 54(-1.27,-33.02) 55(0,-34.29) 56(-1.27,-34.29) 57(0,-35.56) 58(-1.27,-35.56) 59(0,-36.83) 60(-1.27,-36.83) 61(0,-38.1) 62(-1.27,-38.1) 63(0,-39.37) 64(-1.27,-39.37) 65(0,-40.64) 66(-1.27,-40.64) 67(0,-41.91) 68(-1.27,-41.91) 69(0,-43.18) 70(-1.27,-43.18) 71(0,-44.45) 72(-1.27,-44.45) 73(0,-45.72) 74(-1.27,-45.72) 75(0,-46.99) 76(-1.27,-46.99) 77(0,-48.26) 78(-1.27,-48.26) 79(0,-49.53) 80(-1.27,-49.53)
F.SilkS:
  lines w0.254: -5.88,-48.895 -1.688,-48.895 ; -5.88,-47.625 -1.688,-47.625 ; -5.88,-46.355 -1.688,-46.355 ; -5.88,-45.085 -1.688,-45.085 ; -5.88,-43.815 -1.688,-43.815 ; -5.88,-42.545 -1.688,-42.545 ; -5.88,-41.275 -1.688,-41.275 ; -5.88,-40.005 -1.688,-40.005 ; -5.88,-38.735 -1.688,-38.735 ; -5.88,-37.465 -1.688,-37.465 ; -5.88,-36.195 -1.688,-36.195 ; -5.88,-34.925 -1.688,-34.925 ; -5.88,-33.655 -1.688,-33.655 ; -5.88,-32.385 -1.688,-32.385 ; -5.88,-31.115 -1.688,-31.115 ; -5.88,-29.845 -1.688,-29.845 ; -5.88,-28.575 -1.688,-28.575 ; -5.88,-27.305 -1.688,-27.305 ; -5.88,-26.035 -1.688,-26.035 ; -5.88,-24.765 -1.688,-24.765 ; -5.88,-23.495 -1.688,-23.495 ; -5.88,-22.225 -1.688,-22.225 ; -5.88,-20.955 -1.688,-20.955 ; -5.88,-19.685 -1.688,-19.685 ; -5.88,-18.415 -1.688,-18.415 ; -5.88,-17.145 -1.688,-17.145 ; -5.88,-15.875 -1.688,-15.875 ; -5.88,-14.605 -1.688,-14.605 ; -5.88,-13.335 -1.688,-13.335 ; -5.88,-12.065 -1.688,-12.065 ; -5.88,-10.795 -1.688,-10.795 ; -5.88,-9.525 -1.688,-9.525 ; -5.88,-8.255 -1.688,-8.255 ; -5.88,-6.985 -1.688,-6.985 ; -5.88,-5.715 -1.688,-5.715 ; -5.88,-4.445 -1.688,-4.445 ; -5.88,-3.175 -1.688,-3.175 ; -5.88,-1.905 -1.688,-1.905 ; -5.88,-0.635 -1.688,-0.635 ; -5.88,-0.525 -1.82,-0.525 ; -5.88,-0.415 -1.907,-0.415 ; -5.88,-0.305 -1.966,-0.305 ; -5.88,-0.195 -2.005,-0.195 ; -5.88,-0.085 -2.025,-0.085 ; -5.88,0.025 -2.03,0.025 ; -5.88,0.135 -2.018,0.135 ; -5.88,0.245 -1.989,0.245 ; -5.88,0.355 -1.942,0.355 ; -5.88,0.465 -1.871,0.465 ; -5.88,0.575 -1.767,0.575 ; -1.578,-50.225 -5.88,-50.225 -5.88,0.695 -1.578,0.695 ; 0,0.76 0.76,0.76 0.76,0
Top Assembly:
  lines w0.254: -1.42,-49.78 0,-49.78 0,-49.28 -1.42,-49.28 ; -1.42,-48.51 0,-48.51 0,-48.01 -1.42,-48.01 ; -1.42,-47.24 0,-47.24 0,-46.74 -1.42,-46.74 ; -1.42,-45.97 0,-45.97 0,-45.47 -1.42,-45.47 ; -1.42,-44.7 0,-44.7 0,-44.2 -1.42,-44.2 ; -1.42,-43.43 0,-43.43 0,-42.93 -1.42,-42.93 ; -1.42,-42.16 0,-42.16 0,-41.66 -1.42,-41.66 ; -1.42,-40.89 0,-40.89 0,-40.39 -1.42,-40.39 ; -1.42,-39.62 0,-39.62 0,-39.12 -1.42,-39.12 ; -1.42,-38.35 0,-38.35 0,-37.85 -1.42,-37.85 ; -1.42,-37.08 0,-37.08 0,-36.58 -1.42,-36.58 ; -1.42,-35.81 0,-35.81 0,-35.31 -1.42,-35.31 ; -1.42,-34.54 0,-34.54 0,-34.04 -1.42,-34.04 ; -1.42,-33.27 0,-33.27 0,-32.77 -1.42,-32.77 ; -1.42,-32 0,-32 0,-31.5 -1.42,-31.5 ; -1.42,-30.73 0,-30.73 0,-30.23 -1.42,-30.23 ; -1.42,-29.46 0,-29.46 0,-28.96 -1.42,-28.96 ; -1.42,-28.19 0,-28.19 0,-27.69 -1.42,-27.69 ; -1.42,-26.92 0,-26.92 0,-26.42 -1.42,-26.42 ; -1.42,-25.65 0,-25.65 0,-25.15 -1.42,-25.15 ; -1.42,-24.38 0,-24.38 0,-23.88 -1.42,-23.88 ; -1.42,-23.11 0,-23.11 0,-22.61 -1.42,-22.61 ; -1.42,-21.84 0,-21.84 0,-21.34 -1.42,-21.34 ; -1.42,-20.57 0,-20.57 0,-20.07 -1.42,-20.07 ; -1.42,-19.3 0,-19.3 0,-18.8 -1.42,-18.8 ; -1.42,-18.03 0,-18.03 0,-17.53 -1.42,-17.53 ; -1.42,-16.76 0,-16.76 0,-16.26 -1.42,-16.26 ; -1.42,-15.49 0,-15.49 0,-14.99 -1.42,-14.99 ; -1.42,-14.22 0,-14.22 0,-13.72 -1.42,-13.72 ; -1.42,-12.95 0,-12.95 0,-12.45 -1.42,-12.45 ; -1.42,-11.68 0,-11.68 0,-11.18 -1.42,-11.18 ; -1.42,-10.41 0,-10.41 0,-9.91 -1.42,-9.91 ; -1.42,-9.14 0,-9.14 0,-8.64 -1.42,-8.64 ; -1.42,-7.87 0,-7.87 0,-7.37 -1.42,-7.37 ; -1.42,-6.6 0,-6.6 0,-6.1 -1.42,-6.1 ; -1.42,-5.33 0,-5.33 0,-4.83 -1.42,-4.83 ; -1.42,-4.06 0,-4.06 0,-3.56 -1.42,-3.56 ; -1.42,-2.79 0,-2.79 0,-2.29 -1.42,-2.29 ; -1.42,-1.52 0,-1.52 0,-1.02 -1.42,-1.02 ; -1.42,-0.25 0,-0.25 0,0.25 -1.42,0.25 ; -1.42,0.25 -1.42,-50.165 -5.82,-50.165 -5.82,0.635 -1.805,0.635 -1.42,0.25
  text "'.Designator'" at -2.78,-28.812 h1
Top Courtyard:
  lines w0.254: -6.35,-50.7 1.15,-50.7 1.15,1.1 -6.35,1.1 -6.35,-50.7
Top Designator:
  text ".Designator" at -10.218,-25.308 h1.52

## PinSocket_2x40_P1.27mm_Vertical [mm]
pads (80):
  rect 1x1 hole 0.7: 1(0,0)
  round 1 hole 0.7: 2(-1.27,0) 3(0,-1.27) 4(-1.27,-1.27) 5(0,-2.54) 6(-1.27,-2.54) 7(0,-3.81) 8(-1.27,-3.81) 9(0,-5.08) 10(-1.27,-5.08) 11(0,-6.35) 12(-1.27,-6.35) 13(0,-7.62) 14(-1.27,-7.62) 15(0,-8.89) 16(-1.27,-8.89) 17(0,-10.16) 18(-1.27,-10.16) 19(0,-11.43) 20(-1.27,-11.43) 21(0,-12.7) 22(-1.27,-12.7) 23(0,-13.97) 24(-1.27,-13.97) 25(0,-15.24) 26(-1.27,-15.24) 27(0,-16.51) 28(-1.27,-16.51) 29(0,-17.78) 30(-1.27,-17.78) 31(0,-19.05) 32(-1.27,-19.05) 33(0,-20.32) 34(-1.27,-20.32) 35(0,-21.59) 36(-1.27,-21.59) 37(0,-22.86) 38(-1.27,-22.86) 39(0,-24.13) 40(-1.27,-24.13) 41(0,-25.4) 42(-1.27,-25.4) 43(0,-26.67) 44(-1.27,-26.67) 45(0,-27.94) 46(-1.27,-27.94) 47(0,-29.21) 48(-1.27,-29.21) 49(0,-30.48) 50(-1.27,-30.48) 51(0,-31.75) 52(-1.27,-31.75) 53(0,-33.02) 54(-1.27,-33.02) 55(0,-34.29) 56(-1.27,-34.29) 57(0,-35.56) 58(-1.27,-35.56) 59(0,-36.83) 60(-1.27,-36.83) 61(0,-38.1) 62(-1.27,-38.1) 63(0,-39.37) 64(-1.27,-39.37) 65(0,-40.64) 66(-1.27,-40.64) 67(0,-41.91) 68(-1.27,-41.91) 69(0,-43.18) 70(-1.27,-43.18) 71(0,-44.45) 72(-1.27,-44.45) 73(0,-45.72) 74(-1.27,-45.72) 75(0,-46.99) 76(-1.27,-46.99) 77(0,-48.26) 78(-1.27,-48.26) 79(0,-49.53) 80(-1.27,-49.53)
F.SilkS:
  lines w0.254: -1.578,-50.225 -2.22,-50.225 -2.22,0.695 -1.578,0.695 ; -0.962,-50.225 -0.308,-50.225 ; -0.962,0.695 -0.76,0.695 ; 0,0.76 0.95,0.76 0.95,0 ; 0.308,-50.225 0.95,-50.225 0.95,-0.635 0.76,-0.635
Top Assembly:
  lines w0.254: -2.16,-50.165 0.89,-50.165 0.89,-0.128 0.128,0.635 -2.16,0.635 -2.16,-50.165
  text "'.Designator'" at 0.205,-28.812 h1
Top Courtyard:
  lines w0.254: -2.67,-50.65 1.38,-50.65 1.38,1.15 -2.67,1.15 -2.67,-50.65
Top Designator:
  text ".Designator" at -8.263,-25.258 h1.52

## PinSocket_2x40_P1.27mm_Vertical_SMD [mm]
pads (80):
  rect 2.1x0.75 smd: 1(1.8,24.765) 2(-1.8,24.765) 3(1.8,23.495) 4(-1.8,23.495) 5(1.8,22.225) 6(-1.8,22.225) 7(1.8,20.955) 8(-1.8,20.955) 9(1.8,19.685) 10(-1.8,19.685) 11(1.8,18.415) 12(-1.8,18.415) 13(1.8,17.145) 14(-1.8,17.145) 15(1.8,15.875) 16(-1.8,15.875) 17(1.8,14.605) 18(-1.8,14.605) 19(1.8,13.335) 20(-1.8,13.335) 21(1.8,12.065) 22(-1.8,12.065) 23(1.8,10.795) 24(-1.8,10.795) 25(1.8,9.525) 26(-1.8,9.525) 27(1.8,8.255) 28(-1.8,8.255) 29(1.8,6.985) 30(-1.8,6.985) 31(1.8,5.715) 32(-1.8,5.715) 33(1.8,4.445) 34(-1.8,4.445) 35(1.8,3.175) 36(-1.8,3.175) 37(1.8,1.905) 38(-1.8,1.905) 39(1.8,0.635) 40(-1.8,0.635) 41(1.8,-0.635) 42(-1.8,-0.635) 43(1.8,-1.905) 44(-1.8,-1.905) 45(1.8,-3.175) 46(-1.8,-3.175) 47(1.8,-4.445) 48(-1.8,-4.445) 49(1.8,-5.715) 50(-1.8,-5.715) 51(1.8,-6.985) 52(-1.8,-6.985) 53(1.8,-8.255) 54(-1.8,-8.255) 55(1.8,-9.525) 56(-1.8,-9.525) 57(1.8,-10.795) 58(-1.8,-10.795) 59(1.8,-12.065) 60(-1.8,-12.065) 61(1.8,-13.335) 62(-1.8,-13.335) 63(1.8,-14.605) 64(-1.8,-14.605) 65(1.8,-15.875) 66(-1.8,-15.875) 67(1.8,-17.145) 68(-1.8,-17.145) 69(1.8,-18.415) 70(-1.8,-18.415) 71(1.8,-19.685) 72(-1.8,-19.685) 73(1.8,-20.955) 74(-1.8,-20.955) 75(1.8,-22.225) 76(-1.8,-22.225) 77(1.8,-23.495) 78(-1.8,-23.495) 79(1.8,-24.765) 80(-1.8,-24.765)
F.SilkS:
  lines w0.254: -1.33,-25.4 -1.33,-25.46 1.33,-25.46 1.33,-25.4 ; -1.33,25.4 -1.33,25.46 1.33,25.46 1.33,25.4 2.79,25.4
Top Assembly:
  drawing of 245 lines, arcs and shapes, not listed
  text "'.Designator'" at 0.84,-4.047 h1
Top Courtyard:
  lines w0.254: -3.35,-25.9 3.35,-25.9 3.35,25.9 -3.35,25.9 -3.35,-25.9
Top Designator:
  text ".Designator" at -7.618,-0.508 h1.52

## PinSocket_2x41_P1.27mm_Horizontal [mm]
pads (82):
  rect 1x1 hole 0.65: 1(0,0)
  round 1 hole 0.65: 2(-1.27,0) 3(0,-1.27) 4(-1.27,-1.27) 5(0,-2.54) 6(-1.27,-2.54) 7(0,-3.81) 8(-1.27,-3.81) 9(0,-5.08) 10(-1.27,-5.08) 11(0,-6.35) 12(-1.27,-6.35) 13(0,-7.62) 14(-1.27,-7.62) 15(0,-8.89) 16(-1.27,-8.89) 17(0,-10.16) 18(-1.27,-10.16) 19(0,-11.43) 20(-1.27,-11.43) 21(0,-12.7) 22(-1.27,-12.7) 23(0,-13.97) 24(-1.27,-13.97) 25(0,-15.24) 26(-1.27,-15.24) 27(0,-16.51) 28(-1.27,-16.51) 29(0,-17.78) 30(-1.27,-17.78) 31(0,-19.05) 32(-1.27,-19.05) 33(0,-20.32) 34(-1.27,-20.32) 35(0,-21.59) 36(-1.27,-21.59) 37(0,-22.86) 38(-1.27,-22.86) 39(0,-24.13) 40(-1.27,-24.13) 41(0,-25.4) 42(-1.27,-25.4) 43(0,-26.67) 44(-1.27,-26.67) 45(0,-27.94) 46(-1.27,-27.94) 47(0,-29.21) 48(-1.27,-29.21) 49(0,-30.48) 50(-1.27,-30.48) 51(0,-31.75) 52(-1.27,-31.75) 53(0,-33.02) 54(-1.27,-33.02) 55(0,-34.29) 56(-1.27,-34.29) 57(0,-35.56) 58(-1.27,-35.56) 59(0,-36.83) 60(-1.27,-36.83) 61(0,-38.1) 62(-1.27,-38.1) 63(0,-39.37) 64(-1.27,-39.37) 65(0,-40.64) 66(-1.27,-40.64) 67(0,-41.91) 68(-1.27,-41.91) 69(0,-43.18) 70(-1.27,-43.18) 71(0,-44.45) 72(-1.27,-44.45) 73(0,-45.72) 74(-1.27,-45.72) 75(0,-46.99) 76(-1.27,-46.99) 77(0,-48.26) 78(-1.27,-48.26) 79(0,-49.53) 80(-1.27,-49.53) 81(0,-50.8) 82(-1.27,-50.8)
F.SilkS:
  lines w0.254: -5.88,-50.165 -1.688,-50.165 ; -5.88,-48.895 -1.688,-48.895 ; -5.88,-47.625 -1.688,-47.625 ; -5.88,-46.355 -1.688,-46.355 ; -5.88,-45.085 -1.688,-45.085 ; -5.88,-43.815 -1.688,-43.815 ; -5.88,-42.545 -1.688,-42.545 ; -5.88,-41.275 -1.688,-41.275 ; -5.88,-40.005 -1.688,-40.005 ; -5.88,-38.735 -1.688,-38.735 ; -5.88,-37.465 -1.688,-37.465 ; -5.88,-36.195 -1.688,-36.195 ; -5.88,-34.925 -1.688,-34.925 ; -5.88,-33.655 -1.688,-33.655 ; -5.88,-32.385 -1.688,-32.385 ; -5.88,-31.115 -1.688,-31.115 ; -5.88,-29.845 -1.688,-29.845 ; -5.88,-28.575 -1.688,-28.575 ; -5.88,-27.305 -1.688,-27.305 ; -5.88,-26.035 -1.688,-26.035 ; -5.88,-24.765 -1.688,-24.765 ; -5.88,-23.495 -1.688,-23.495 ; -5.88,-22.225 -1.688,-22.225 ; -5.88,-20.955 -1.688,-20.955 ; -5.88,-19.685 -1.688,-19.685 ; -5.88,-18.415 -1.688,-18.415 ; -5.88,-17.145 -1.688,-17.145 ; -5.88,-15.875 -1.688,-15.875 ; -5.88,-14.605 -1.688,-14.605 ; -5.88,-13.335 -1.688,-13.335 ; -5.88,-12.065 -1.688,-12.065 ; -5.88,-10.795 -1.688,-10.795 ; -5.88,-9.525 -1.688,-9.525 ; -5.88,-8.255 -1.688,-8.255 ; -5.88,-6.985 -1.688,-6.985 ; -5.88,-5.715 -1.688,-5.715 ; -5.88,-4.445 -1.688,-4.445 ; -5.88,-3.175 -1.688,-3.175 ; -5.88,-1.905 -1.688,-1.905 ; -5.88,-0.635 -1.688,-0.635 ; -5.88,-0.525 -1.82,-0.525 ; -5.88,-0.415 -1.907,-0.415 ; -5.88,-0.305 -1.966,-0.305 ; -5.88,-0.195 -2.005,-0.195 ; -5.88,-0.085 -2.025,-0.085 ; -5.88,0.025 -2.03,0.025 ; -5.88,0.135 -2.018,0.135 ; -5.88,0.245 -1.989,0.245 ; -5.88,0.355 -1.942,0.355 ; -5.88,0.465 -1.871,0.465 ; -5.88,0.575 -1.767,0.575 ; -1.578,-51.495 -5.88,-51.495 -5.88,0.695 -1.578,0.695 ; 0,0.76 0.76,0.76 0.76,0
Top Assembly:
  lines w0.254: -1.42,-51.05 0,-51.05 0,-50.55 -1.42,-50.55 ; -1.42,-49.78 0,-49.78 0,-49.28 -1.42,-49.28 ; -1.42,-48.51 0,-48.51 0,-48.01 -1.42,-48.01 ; -1.42,-47.24 0,-47.24 0,-46.74 -1.42,-46.74 ; -1.42,-45.97 0,-45.97 0,-45.47 -1.42,-45.47 ; -1.42,-44.7 0,-44.7 0,-44.2 -1.42,-44.2 ; -1.42,-43.43 0,-43.43 0,-42.93 -1.42,-42.93 ; -1.42,-42.16 0,-42.16 0,-41.66 -1.42,-41.66 ; -1.42,-40.89 0,-40.89 0,-40.39 -1.42,-40.39 ; -1.42,-39.62 0,-39.62 0,-39.12 -1.42,-39.12 ; -1.42,-38.35 0,-38.35 0,-37.85 -1.42,-37.85 ; -1.42,-37.08 0,-37.08 0,-36.58 -1.42,-36.58 ; -1.42,-35.81 0,-35.81 0,-35.31 -1.42,-35.31 ; -1.42,-34.54 0,-34.54 0,-34.04 -1.42,-34.04 ; -1.42,-33.27 0,-33.27 0,-32.77 -1.42,-32.77 ; -1.42,-32 0,-32 0,-31.5 -1.42,-31.5 ; -1.42,-30.73 0,-30.73 0,-30.23 -1.42,-30.23 ; -1.42,-29.46 0,-29.46 0,-28.96 -1.42,-28.96 ; -1.42,-28.19 0,-28.19 0,-27.69 -1.42,-27.69 ; -1.42,-26.92 0,-26.92 0,-26.42 -1.42,-26.42 ; -1.42,-25.65 0,-25.65 0,-25.15 -1.42,-25.15 ; -1.42,-24.38 0,-24.38 0,-23.88 -1.42,-23.88 ; -1.42,-23.11 0,-23.11 0,-22.61 -1.42,-22.61 ; -1.42,-21.84 0,-21.84 0,-21.34 -1.42,-21.34 ; -1.42,-20.57 0,-20.57 0,-20.07 -1.42,-20.07 ; -1.42,-19.3 0,-19.3 0,-18.8 -1.42,-18.8 ; -1.42,-18.03 0,-18.03 0,-17.53 -1.42,-17.53 ; -1.42,-16.76 0,-16.76 0,-16.26 -1.42,-16.26 ; -1.42,-15.49 0,-15.49 0,-14.99 -1.42,-14.99 ; -1.42,-14.22 0,-14.22 0,-13.72 -1.42,-13.72 ; -1.42,-12.95 0,-12.95 0,-12.45 -1.42,-12.45 ; -1.42,-11.68 0,-11.68 0,-11.18 -1.42,-11.18 ; -1.42,-10.41 0,-10.41 0,-9.91 -1.42,-9.91 ; -1.42,-9.14 0,-9.14 0,-8.64 -1.42,-8.64 ; -1.42,-7.87 0,-7.87 0,-7.37 -1.42,-7.37 ; -1.42,-6.6 0,-6.6 0,-6.1 -1.42,-6.1 ; -1.42,-5.33 0,-5.33 0,-4.83 -1.42,-4.83 ; -1.42,-4.06 0,-4.06 0,-3.56 -1.42,-3.56 ; -1.42,-2.79 0,-2.79 0,-2.29 -1.42,-2.29 ; -1.42,-1.52 0,-1.52 0,-1.02 -1.42,-1.02 ; -1.42,-0.25 0,-0.25 0,0.25 -1.42,0.25 ; -1.42,0.25 -1.42,-51.435 -5.82,-51.435 -5.82,0.635 -1.805,0.635 -1.42,0.25
  text "'.Designator'" at -2.78,-29.447 h1
Top Courtyard:
  lines w0.254: -6.35,-51.95 1.15,-51.95 1.15,1.15 -6.35,1.15 -6.35,-51.95
Top Designator:
  text ".Designator" at -10.218,-25.908 h1.52

## PinSocket_2x42_P1.27mm_Horizontal [mm]
pads (84):
  rect 1x1 hole 0.65: 1(0,0)
  round 1 hole 0.65: 2(-1.27,0) 3(0,-1.27) 4(-1.27,-1.27) 5(0,-2.54) 6(-1.27,-2.54) 7(0,-3.81) 8(-1.27,-3.81) 9(0,-5.08) 10(-1.27,-5.08) 11(0,-6.35) 12(-1.27,-6.35) 13(0,-7.62) 14(-1.27,-7.62) 15(0,-8.89) 16(-1.27,-8.89) 17(0,-10.16) 18(-1.27,-10.16) 19(0,-11.43) 20(-1.27,-11.43) 21(0,-12.7) 22(-1.27,-12.7) 23(0,-13.97) 24(-1.27,-13.97) 25(0,-15.24) 26(-1.27,-15.24) 27(0,-16.51) 28(-1.27,-16.51) 29(0,-17.78) 30(-1.27,-17.78) 31(0,-19.05) 32(-1.27,-19.05) 33(0,-20.32) 34(-1.27,-20.32) 35(0,-21.59) 36(-1.27,-21.59) 37(0,-22.86) 38(-1.27,-22.86) 39(0,-24.13) 40(-1.27,-24.13) 41(0,-25.4) 42(-1.27,-25.4) 43(0,-26.67) 44(-1.27,-26.67) 45(0,-27.94) 46(-1.27,-27.94) 47(0,-29.21) 48(-1.27,-29.21) 49(0,-30.48) 50(-1.27,-30.48) 51(0,-31.75) 52(-1.27,-31.75) 53(0,-33.02) 54(-1.27,-33.02) 55(0,-34.29) 56(-1.27,-34.29) 57(0,-35.56) 58(-1.27,-35.56) 59(0,-36.83) 60(-1.27,-36.83) 61(0,-38.1) 62(-1.27,-38.1) 63(0,-39.37) 64(-1.27,-39.37) 65(0,-40.64) 66(-1.27,-40.64) 67(0,-41.91) 68(-1.27,-41.91) 69(0,-43.18) 70(-1.27,-43.18) 71(0,-44.45) 72(-1.27,-44.45) 73(0,-45.72) 74(-1.27,-45.72) 75(0,-46.99) 76(-1.27,-46.99) 77(0,-48.26) 78(-1.27,-48.26) 79(0,-49.53) 80(-1.27,-49.53) 81(0,-50.8) 82(-1.27,-50.8) 83(0,-52.07) 84(-1.27,-52.07)
F.SilkS:
  lines w0.254: -5.88,-51.435 -1.688,-51.435 ; -5.88,-50.165 -1.688,-50.165 ; -5.88,-48.895 -1.688,-48.895 ; -5.88,-47.625 -1.688,-47.625 ; -5.88,-46.355 -1.688,-46.355 ; -5.88,-45.085 -1.688,-45.085 ; -5.88,-43.815 -1.688,-43.815 ; -5.88,-42.545 -1.688,-42.545 ; -5.88,-41.275 -1.688,-41.275 ; -5.88,-40.005 -1.688,-40.005 ; -5.88,-38.735 -1.688,-38.735 ; -5.88,-37.465 -1.688,-37.465 ; -5.88,-36.195 -1.688,-36.195 ; -5.88,-34.925 -1.688,-34.925 ; -5.88,-33.655 -1.688,-33.655 ; -5.88,-32.385 -1.688,-32.385 ; -5.88,-31.115 -1.688,-31.115 ; -5.88,-29.845 -1.688,-29.845 ; -5.88,-28.575 -1.688,-28.575 ; -5.88,-27.305 -1.688,-27.305 ; -5.88,-26.035 -1.688,-26.035 ; -5.88,-24.765 -1.688,-24.765 ; -5.88,-23.495 -1.688,-23.495 ; -5.88,-22.225 -1.688,-22.225 ; -5.88,-20.955 -1.688,-20.955 ; -5.88,-19.685 -1.688,-19.685 ; -5.88,-18.415 -1.688,-18.415 ; -5.88,-17.145 -1.688,-17.145 ; -5.88,-15.875 -1.688,-15.875 ; -5.88,-14.605 -1.688,-14.605 ; -5.88,-13.335 -1.688,-13.335 ; -5.88,-12.065 -1.688,-12.065 ; -5.88,-10.795 -1.688,-10.795 ; -5.88,-9.525 -1.688,-9.525 ; -5.88,-8.255 -1.688,-8.255 ; -5.88,-6.985 -1.688,-6.985 ; -5.88,-5.715 -1.688,-5.715 ; -5.88,-4.445 -1.688,-4.445 ; -5.88,-3.175 -1.688,-3.175 ; -5.88,-1.905 -1.688,-1.905 ; -5.88,-0.635 -1.688,-0.635 ; -5.88,-0.525 -1.82,-0.525 ; -5.88,-0.415 -1.907,-0.415 ; -5.88,-0.305 -1.966,-0.305 ; -5.88,-0.195 -2.005,-0.195 ; -5.88,-0.085 -2.025,-0.085 ; -5.88,0.025 -2.03,0.025 ; -5.88,0.135 -2.018,0.135 ; -5.88,0.245 -1.989,0.245 ; -5.88,0.355 -1.942,0.355 ; -5.88,0.465 -1.871,0.465 ; -5.88,0.575 -1.767,0.575 ; -1.578,-52.765 -5.88,-52.765 -5.88,0.695 -1.578,0.695 ; 0,0.76 0.76,0.76 0.76,0
Top Assembly:
  lines w0.254: -1.42,-52.32 0,-52.32 0,-51.82 -1.42,-51.82 ; -1.42,-51.05 0,-51.05 0,-50.55 -1.42,-50.55 ; -1.42,-49.78 0,-49.78 0,-49.28 -1.42,-49.28 ; -1.42,-48.51 0,-48.51 0,-48.01 -1.42,-48.01 ; -1.42,-47.24 0,-47.24 0,-46.74 -1.42,-46.74 ; -1.42,-45.97 0,-45.97 0,-45.47 -1.42,-45.47 ; -1.42,-44.7 0,-44.7 0,-44.2 -1.42,-44.2 ; -1.42,-43.43 0,-43.43 0,-42.93 -1.42,-42.93 ; -1.42,-42.16 0,-42.16 0,-41.66 -1.42,-41.66 ; -1.42,-40.89 0,-40.89 0,-40.39 -1.42,-40.39 ; -1.42,-39.62 0,-39.62 0,-39.12 -1.42,-39.12 ; -1.42,-38.35 0,-38.35 0,-37.85 -1.42,-37.85 ; -1.42,-37.08 0,-37.08 0,-36.58 -1.42,-36.58 ; -1.42,-35.81 0,-35.81 0,-35.31 -1.42,-35.31 ; -1.42,-34.54 0,-34.54 0,-34.04 -1.42,-34.04 ; -1.42,-33.27 0,-33.27 0,-32.77 -1.42,-32.77 ; -1.42,-32 0,-32 0,-31.5 -1.42,-31.5 ; -1.42,-30.73 0,-30.73 0,-30.23 -1.42,-30.23 ; -1.42,-29.46 0,-29.46 0,-28.96 -1.42,-28.96 ; -1.42,-28.19 0,-28.19 0,-27.69 -1.42,-27.69 ; -1.42,-26.92 0,-26.92 0,-26.42 -1.42,-26.42 ; -1.42,-25.65 0,-25.65 0,-25.15 -1.42,-25.15 ; -1.42,-24.38 0,-24.38 0,-23.88 -1.42,-23.88 ; -1.42,-23.11 0,-23.11 0,-22.61 -1.42,-22.61 ; -1.42,-21.84 0,-21.84 0,-21.34 -1.42,-21.34 ; -1.42,-20.57 0,-20.57 0,-20.07 -1.42,-20.07 ; -1.42,-19.3 0,-19.3 0,-18.8 -1.42,-18.8 ; -1.42,-18.03 0,-18.03 0,-17.53 -1.42,-17.53 ; -1.42,-16.76 0,-16.76 0,-16.26 -1.42,-16.26 ; -1.42,-15.49 0,-15.49 0,-14.99 -1.42,-14.99 ; -1.42,-14.22 0,-14.22 0,-13.72 -1.42,-13.72 ; -1.42,-12.95 0,-12.95 0,-12.45 -1.42,-12.45 ; -1.42,-11.68 0,-11.68 0,-11.18 -1.42,-11.18 ; -1.42,-10.41 0,-10.41 0,-9.91 -1.42,-9.91 ; -1.42,-9.14 0,-9.14 0,-8.64 -1.42,-8.64 ; -1.42,-7.87 0,-7.87 0,-7.37 -1.42,-7.37 ; -1.42,-6.6 0,-6.6 0,-6.1 -1.42,-6.1 ; -1.42,-5.33 0,-5.33 0,-4.83 -1.42,-4.83 ; -1.42,-4.06 0,-4.06 0,-3.56 -1.42,-3.56 ; -1.42,-2.79 0,-2.79 0,-2.29 -1.42,-2.29 ; -1.42,-1.52 0,-1.52 0,-1.02 -1.42,-1.02 ; -1.42,-0.25 0,-0.25 0,0.25 -1.42,0.25 ; -1.42,0.25 -1.42,-52.705 -5.82,-52.705 -5.82,0.635 -1.805,0.635 -1.42,0.25
  text "'.Designator'" at -2.78,-30.082 h1
Top Courtyard:
  lines w0.254: -6.35,-53.2 1.15,-53.2 1.15,1.15 -6.35,1.15 -6.35,-53.2
Top Designator:
  text ".Designator" at -10.218,-26.533 h1.52

## PinSocket_2x43_P1.27mm_Horizontal [mm]
pads (86):
  rect 1x1 hole 0.65: 1(0,0)
  round 1 hole 0.65: 2(-1.27,0) 3(0,-1.27) 4(-1.27,-1.27) 5(0,-2.54) 6(-1.27,-2.54) 7(0,-3.81) 8(-1.27,-3.81) 9(0,-5.08) 10(-1.27,-5.08) 11(0,-6.35) 12(-1.27,-6.35) 13(0,-7.62) 14(-1.27,-7.62) 15(0,-8.89) 16(-1.27,-8.89) 17(0,-10.16) 18(-1.27,-10.16) 19(0,-11.43) 20(-1.27,-11.43) 21(0,-12.7) 22(-1.27,-12.7) 23(0,-13.97) 24(-1.27,-13.97) 25(0,-15.24) 26(-1.27,-15.24) 27(0,-16.51) 28(-1.27,-16.51) 29(0,-17.78) 30(-1.27,-17.78) 31(0,-19.05) 32(-1.27,-19.05) 33(0,-20.32) 34(-1.27,-20.32) 35(0,-21.59) 36(-1.27,-21.59) 37(0,-22.86) 38(-1.27,-22.86) 39(0,-24.13) 40(-1.27,-24.13) 41(0,-25.4) 42(-1.27,-25.4) 43(0,-26.67) 44(-1.27,-26.67) 45(0,-27.94) 46(-1.27,-27.94) 47(0,-29.21) 48(-1.27,-29.21) 49(0,-30.48) 50(-1.27,-30.48) 51(0,-31.75) 52(-1.27,-31.75) 53(0,-33.02) 54(-1.27,-33.02) 55(0,-34.29) 56(-1.27,-34.29) 57(0,-35.56) 58(-1.27,-35.56) 59(0,-36.83) 60(-1.27,-36.83) 61(0,-38.1) 62(-1.27,-38.1) 63(0,-39.37) 64(-1.27,-39.37) 65(0,-40.64) 66(-1.27,-40.64) 67(0,-41.91) 68(-1.27,-41.91) 69(0,-43.18) 70(-1.27,-43.18) 71(0,-44.45) 72(-1.27,-44.45) 73(0,-45.72) 74(-1.27,-45.72) 75(0,-46.99) 76(-1.27,-46.99) 77(0,-48.26) 78(-1.27,-48.26) 79(0,-49.53) 80(-1.27,-49.53) 81(0,-50.8) 82(-1.27,-50.8) 83(0,-52.07) 84(-1.27,-52.07) 85(0,-53.34) 86(-1.27,-53.34)
F.SilkS:
  lines w0.254: -5.88,-52.705 -1.688,-52.705 ; -5.88,-51.435 -1.688,-51.435 ; -5.88,-50.165 -1.688,-50.165 ; -5.88,-48.895 -1.688,-48.895 ; -5.88,-47.625 -1.688,-47.625 ; -5.88,-46.355 -1.688,-46.355 ; -5.88,-45.085 -1.688,-45.085 ; -5.88,-43.815 -1.688,-43.815 ; -5.88,-42.545 -1.688,-42.545 ; -5.88,-41.275 -1.688,-41.275 ; -5.88,-40.005 -1.688,-40.005 ; -5.88,-38.735 -1.688,-38.735 ; -5.88,-37.465 -1.688,-37.465 ; -5.88,-36.195 -1.688,-36.195 ; -5.88,-34.925 -1.688,-34.925 ; -5.88,-33.655 -1.688,-33.655 ; -5.88,-32.385 -1.688,-32.385 ; -5.88,-31.115 -1.688,-31.115 ; -5.88,-29.845 -1.688,-29.845 ; -5.88,-28.575 -1.688,-28.575 ; -5.88,-27.305 -1.688,-27.305 ; -5.88,-26.035 -1.688,-26.035 ; -5.88,-24.765 -1.688,-24.765 ; -5.88,-23.495 -1.688,-23.495 ; -5.88,-22.225 -1.688,-22.225 ; -5.88,-20.955 -1.688,-20.955 ; -5.88,-19.685 -1.688,-19.685 ; -5.88,-18.415 -1.688,-18.415 ; -5.88,-17.145 -1.688,-17.145 ; -5.88,-15.875 -1.688,-15.875 ; -5.88,-14.605 -1.688,-14.605 ; -5.88,-13.335 -1.688,-13.335 ; -5.88,-12.065 -1.688,-12.065 ; -5.88,-10.795 -1.688,-10.795 ; -5.88,-9.525 -1.688,-9.525 ; -5.88,-8.255 -1.688,-8.255 ; -5.88,-6.985 -1.688,-6.985 ; -5.88,-5.715 -1.688,-5.715 ; -5.88,-4.445 -1.688,-4.445 ; -5.88,-3.175 -1.688,-3.175 ; -5.88,-1.905 -1.688,-1.905 ; -5.88,-0.635 -1.688,-0.635 ; -5.88,-0.525 -1.82,-0.525 ; -5.88,-0.415 -1.907,-0.415 ; -5.88,-0.305 -1.966,-0.305 ; -5.88,-0.195 -2.005,-0.195 ; -5.88,-0.085 -2.025,-0.085 ; -5.88,0.025 -2.03,0.025 ; -5.88,0.135 -2.018,0.135 ; -5.88,0.245 -1.989,0.245 ; -5.88,0.355 -1.942,0.355 ; -5.88,0.465 -1.871,0.465 ; -5.88,0.575 -1.767,0.575 ; -1.578,-54.035 -5.88,-54.035 -5.88,0.695 -1.578,0.695 ; 0,0.76 0.76,0.76 0.76,0
Top Assembly:
  lines w0.254: -1.42,-53.59 0,-53.59 0,-53.09 -1.42,-53.09 ; -1.42,-52.32 0,-52.32 0,-51.82 -1.42,-51.82 ; -1.42,-51.05 0,-51.05 0,-50.55 -1.42,-50.55 ; -1.42,-49.78 0,-49.78 0,-49.28 -1.42,-49.28 ; -1.42,-48.51 0,-48.51 0,-48.01 -1.42,-48.01 ; -1.42,-47.24 0,-47.24 0,-46.74 -1.42,-46.74 ; -1.42,-45.97 0,-45.97 0,-45.47 -1.42,-45.47 ; -1.42,-44.7 0,-44.7 0,-44.2 -1.42,-44.2 ; -1.42,-43.43 0,-43.43 0,-42.93 -1.42,-42.93 ; -1.42,-42.16 0,-42.16 0,-41.66 -1.42,-41.66 ; -1.42,-40.89 0,-40.89 0,-40.39 -1.42,-40.39 ; -1.42,-39.62 0,-39.62 0,-39.12 -1.42,-39.12 ; -1.42,-38.35 0,-38.35 0,-37.85 -1.42,-37.85 ; -1.42,-37.08 0,-37.08 0,-36.58 -1.42,-36.58 ; -1.42,-35.81 0,-35.81 0,-35.31 -1.42,-35.31 ; -1.42,-34.54 0,-34.54 0,-34.04 -1.42,-34.04 ; -1.42,-33.27 0,-33.27 0,-32.77 -1.42,-32.77 ; -1.42,-32 0,-32 0,-31.5 -1.42,-31.5 ; -1.42,-30.73 0,-30.73 0,-30.23 -1.42,-30.23 ; -1.42,-29.46 0,-29.46 0,-28.96 -1.42,-28.96 ; -1.42,-28.19 0,-28.19 0,-27.69 -1.42,-27.69 ; -1.42,-26.92 0,-26.92 0,-26.42 -1.42,-26.42 ; -1.42,-25.65 0,-25.65 0,-25.15 -1.42,-25.15 ; -1.42,-24.38 0,-24.38 0,-23.88 -1.42,-23.88 ; -1.42,-23.11 0,-23.11 0,-22.61 -1.42,-22.61 ; -1.42,-21.84 0,-21.84 0,-21.34 -1.42,-21.34 ; -1.42,-20.57 0,-20.57 0,-20.07 -1.42,-20.07 ; -1.42,-19.3 0,-19.3 0,-18.8 -1.42,-18.8 ; -1.42,-18.03 0,-18.03 0,-17.53 -1.42,-17.53 ; -1.42,-16.76 0,-16.76 0,-16.26 -1.42,-16.26 ; -1.42,-15.49 0,-15.49 0,-14.99 -1.42,-14.99 ; -1.42,-14.22 0,-14.22 0,-13.72 -1.42,-13.72 ; -1.42,-12.95 0,-12.95 0,-12.45 -1.42,-12.45 ; -1.42,-11.68 0,-11.68 0,-11.18 -1.42,-11.18 ; -1.42,-10.41 0,-10.41 0,-9.91 -1.42,-9.91 ; -1.42,-9.14 0,-9.14 0,-8.64 -1.42,-8.64 ; -1.42,-7.87 0,-7.87 0,-7.37 -1.42,-7.37 ; -1.42,-6.6 0,-6.6 0,-6.1 -1.42,-6.1 ; -1.42,-5.33 0,-5.33 0,-4.83 -1.42,-4.83 ; -1.42,-4.06 0,-4.06 0,-3.56 -1.42,-3.56 ; -1.42,-2.79 0,-2.79 0,-2.29 -1.42,-2.29 ; -1.42,-1.52 0,-1.52 0,-1.02 -1.42,-1.02 ; -1.42,-0.25 0,-0.25 0,0.25 -1.42,0.25 ; -1.42,0.25 -1.42,-53.975 -5.82,-53.975 -5.82,0.635 -1.805,0.635 -1.42,0.25
  text "'.Designator'" at -2.78,-30.717 h1
Top Courtyard:
  lines w0.254: -6.35,-54.5 1.15,-54.5 1.15,1.15 -6.35,1.15 -6.35,-54.5
Top Designator:
  text ".Designator" at -10.218,-27.183 h1.52